# EAGLE library part DRV8835 (library FaBo-Motor)
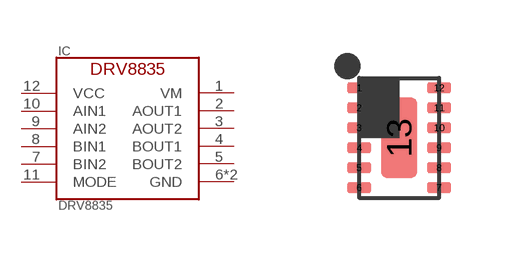
[diagram p6: symbol with the pads of DRV8835; footprint DRV8835]

Designator prefix IC

## DRV8835DSSR  [DRV8835]
1  VM
2  AOUT1
3  AOUT2
4  BOUT1
5  BOUT2
6  GND
7  BIN2
8  BIN1
9  AIN2
10  AIN1
11  MODE
12  VCC
13  GND

## Footprint DRV8835 (pad centres in mm)
smd 0.6 x 0.25: 1 -1,1.25; 2 -1,0.75; 3 -1,0.25; 4 -1,-0.25; 5 -1,-0.75; 6 -1,-1.25; 7 1,-1.25; 8 1,-0.75; 9 1,-0.25; 10 1,0.25; 11 1,0.75; 12 1,1.25
smd 0.9 x 2: 13 0,0